# Altium footprint library SR215C104KAR.PcbLib: 1 footprints
Each footprint in its own frame and in the unit in brackets; x right, y up, seen from the top. Pads: shape width x height; smd on the part's side, far side on the other; paste and mask are expansions set on the pad; w line width, h text height; cw(c..) or ccw(c..) is an arc to the next point about the centre after c.
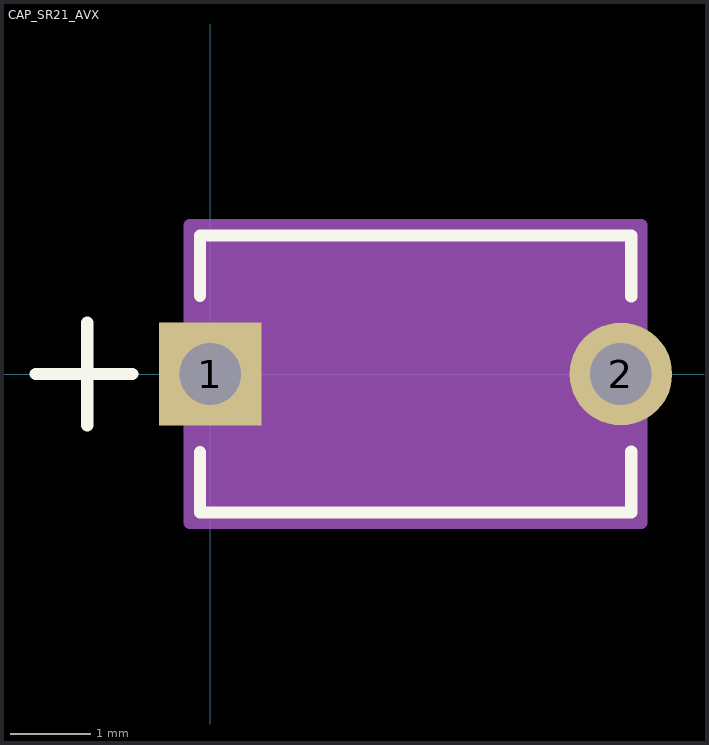
[diagram p0: the footprint, top view; thin cyan lines are the x and y axes]

## CAP_SR21_AVX [mil]
pads (2):
  rect 50x50 hole 30 paste-25 mask+0: 1(0,0)
  round 50 hole 30 paste-25 mask+0: 2(200,0)
Top Overlay:
  lines w6: -85,0 -38.1,0 ; -60,-25 -60,25 ; -5,-38.1 -5,-67.5 205,-67.5 205,-37.77 ; -5,38.1 -5,67.5 205,67.5 205,37.77
  text ".Designator" at -37.5,-25 h50
Mechanical 13:
  lines w1: -85,0 -35,0 ; -60,-25 -60,25 ; 0,-62.5 200,-62.5 200,62.5 0,62.5 0,-62.5
  text ".Designator" at -37.5,-25 h50
Mechanical 15:
  region: 210,-72.5 -10,-72.5 -10,72.5 210,72.5
  lines w6: -10,-72.5 -10,72.5 210,72.5 210,-72.5 -10,-72.5
3D body "CAP_SR21_AVX.step": height 200, standoff -160, extent -30,-62.52 210,62.52